# EAGLE library part RN-XV (library roving-networks)
802.11 b/g module
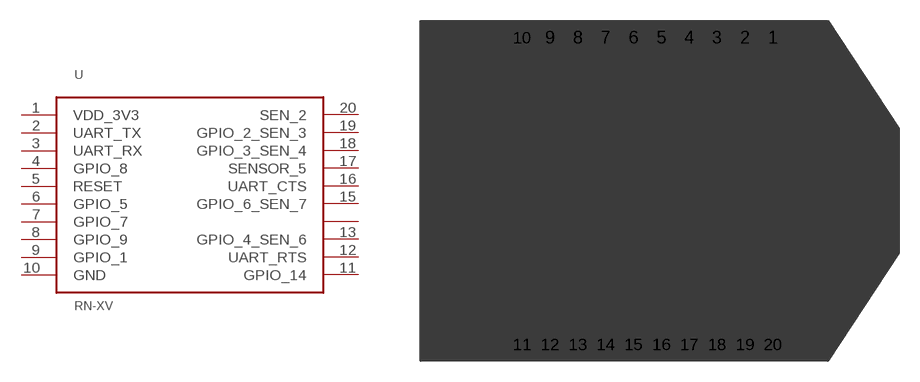
[diagram p0: symbol with the pads of RN-XV; footprint RN-XV]

Designator prefix -

## RN-XV  [RN-XV]
1  VDD_3V3  pwr
2  UART_TX  out
3  UART_RX  in
4  GPIO_8
5  RESET  in
6  GPIO_5
7  GPIO_7
8  GPIO_9
9  GPIO_1
10  GND  pwr
11  GPIO_14
12  UART_RTS  out
13  GPIO_4_SEN_6
14  NOT_USED  nc
15  GPIO_6_SEN_7
16  UART_CTS  in
17  SENSOR_5  in
18  GPIO_3_SEN_4
19  GPIO_2_SEN_3
20  SEN_2  in

## Footprint RN-XV (pad centres in mm)
drill 0.8 square: 1 25.264,23.193
drill 0.8 round: 2 23.264,23.193; 3 21.264,23.193; 4 19.264,23.193; 5 17.264,23.193; 6 15.264,23.193; 7 13.264,23.193; 8 11.264,23.193; 9 9.264,23.193; 10 7.264,23.193; 11 7.264,1.194; 12 9.264,1.194; 13 11.264,1.194; 14 13.264,1.194; 15 15.264,1.194; 16 17.264,1.194; 17 19.264,1.194; 18 21.264,1.194; 19 23.264,1.194; 20 25.264,1.194